# Altium schematic symbol library PNSC-AQY414.SchLib: 1 symbol
Pins are listed as number, name and electrical type; pins without a type are passive.

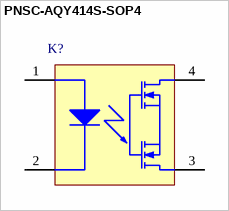
[diagram p0: symbol PNSC-AQY414S-SOP4]

## PNSC-AQY414S-SOP4
designator K?
pins: 1, 2, 3, 4